# Altium schematic symbol library IIOT_GATEWAY_MT7621.SCHLIB: 180 symbols (part 1 of 2)
Pins are listed as number, name and electrical type; pins without a type are passive.

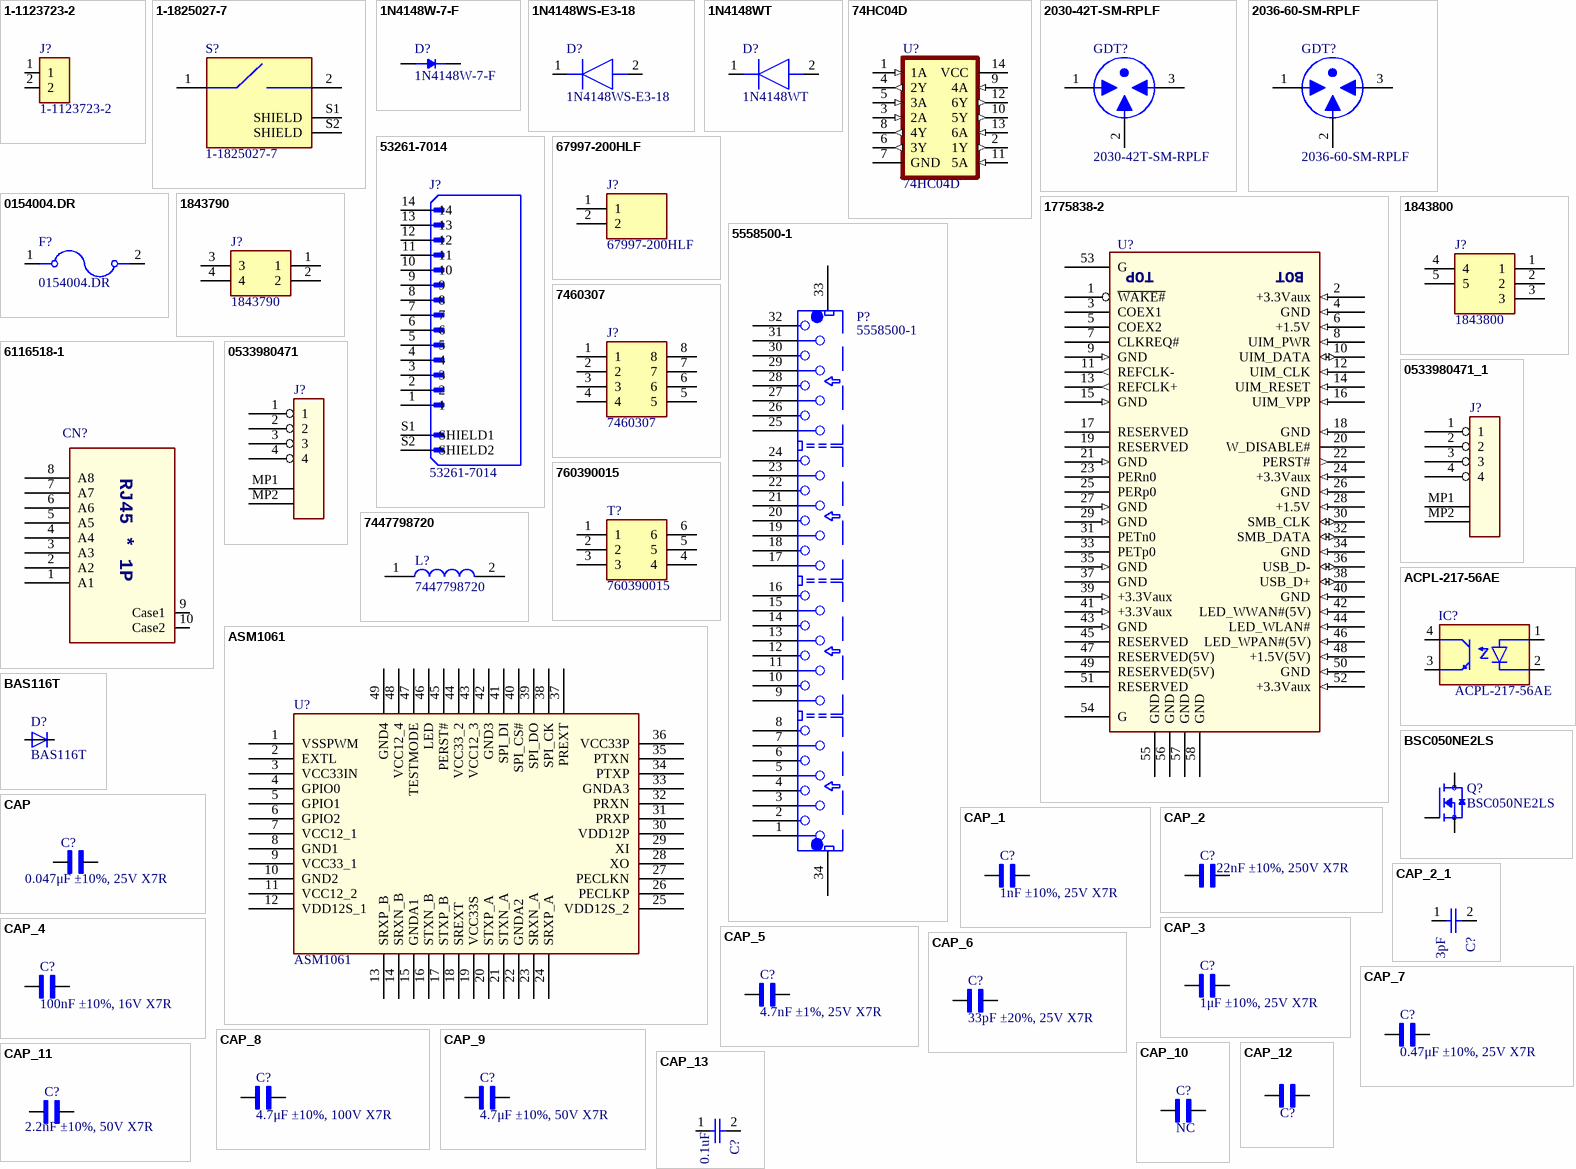
[diagram p0: symbols 1-1123723-2 to CAP_13]

## 1-1123723-2
designator J?
3.96 EP HDR ASSY 2P_NATURAL_; Number_of_Positions: 2; MF: TE Connectivity; Product_Type: Header; Centerline_Pitch: 3.96 mm[.156 in]; EU_RoHS_Compliance: Compliant; Value: *; TE_purchase_URL: https://www.te.com/usa-en/product-1-1123723-2.html?te_bu=Cor&te_type=disp&te_campaign=seda_glo_cor-seda-global-disp-prtnr-fy19-seda-model-bom-cta_sma-317_1&elqCampaignId=32493; SnapEDA_Link: https://www.snapeda.com/parts/1-1123723-2/TE%20Connectivity%20AMP%20Connectors/view-part/231687/?ref=snap; Package: None; MP: 1-1123723-2; Digi-Key_Purchase_URL: https://www.digikey.com/product-detail/en/te-connectivity-amp-connectors/1-1123723-2/A111830-ND/686925?utm_source=snapeda&utm_medium=aggregator&utm_campaign=symbol; Digi-Key_Part_Number: A111830-ND
footprint TE_1-1123723-2
pins: 1, 2

## 1-1825027-7
designator S?
Switch; Manufacturer_Name: TE Connectivity; Datasheet Link: https://www.te.com/commerce/DocumentDelivery/DDEController?Action=srchrtrv&DocNm=1308111-1_SWITCHES_CORE_PROGRAM_CATALOG&DocType=CS&DocLang=English; Height: 7.01mm; Manufacturer_Part_Number: 1-1825027-7; Mouser Part Number: 655-1-1825027-7; Mouser Price/Stock: https://www.mouser.co.uk/ProductDetail/TE-Connectivity-PB/1-1825027-7?qs=f77SmbfBTEqvrOH32rsDWQ%3D%3D; Arrow Part Number: 1-1825027-7; Arrow Price/Stock: https://www.arrow.com/en/products/1-1825027-7/te-connectivity
footprint 118250277
pins: 1 COM, 2 NO, S1 SHIELD, S2 SHIELD

## 1N4148W-7-F
designator D?
Diode Standard 100 V 300mA (DC) Surface Mount SOD-123; MF: Diodes Inc.; Value: *; Availability: In Stock; Package: SOD-123 Fairchild Semiconductor; SnapEDA_Link: https://www.snapeda.com/parts/1N4148W-7-F/Diodes+Inc./view-part/?ref=snap; Price: None; Check_prices: https://www.snapeda.com/parts/1N4148W-7-F/Diodes+Inc./view-part/?ref=eda; Purchase-URL: https://pricing.snapeda.com/search/part/1N4148W-7-F/?ref=eda; MP: 1N4148W-7-F
footprint SOD3715X135N
pins: A, C K

## 1N4148WS-E3-18
designator D?
Diode; Manufacturer_Name: Vishay; Datasheet Link: https://www.vishay.com/docs/85751/1n4148ws.pdf; Height: 1.15mm; Manufacturer_Part_Number: 1N4148WS-E3-18; Mouser Part Number: 78-1N4148WS-E3-18; Mouser Price/Stock: https://www.mouser.co.uk/ProductDetail/Vishay-Semiconductors/1N4148WS-E3-18?qs=bTzheeSci6SMGZleBxLU%2Fg%3D%3D; Arrow Part Number: 1N4148WS-E3-18; Arrow Price/Stock: https://www.arrow.com/en/products/1n4148ws-e3-18/vishay?region=nac
footprint SOD2713X115N
pins: 1 K, 2 A

## 1N4148WT
designator D?
Diode; Manufacturer_Name: SEMTECH; Datasheet Link: https://datasheet.lcsc.com/szlcsc/Semtech-1N4148WT_C27748.pdf; Height: 0.7mm; Manufacturer_Part_Number: 1N4148WT
footprint SODFL1608X70N
pins: 1 K, 2 A

## 74HC04D
designator U?
Inverter IC 6 Channel 14-SOIC; MF: Toshiba; Value: *; MP: 74HC04D; Package: SOIC-14 NXP Semiconductors; Price: None; Availability: Unavailable; SnapEDA_Link: https://www.snapeda.com/parts/74HC04D/Toshiba%20Semiconductor%20and%20Storage/view-part/1040011/?ref=snap
footprint SOIC127P600X175-14N
pins: 1 1A (in), 2 1Y (out), 3 2A (in), 4 2Y (out), 5 3A (in), 6 3Y (out), 7 GND, 8 4Y (out), 9 4A (in), 10 5Y (out), 11 5A (in), 12 6Y (out), 13 6A (in), 14 VCC (power)

## 2030-42T-SM-RPLF
designator GDT?
Gas Discharge Tube 90V 10000A _10kA_ 3 Pole Through Hole; MF: Littelfuse Inc.; MP: SL1021A090R; Value: *; Availability: Unavailable; Package: Axial Cylinder Littelfuse; Price: None; SnapEDA_Link: https://www.snapeda.com/parts/SL1021A090R/Littelfuse%20Inc./view-part/554396/?ref=snap
footprint 2030-42T-SM-RPLF
pins: 1 A, 2 E, 3 B

## 2036-60-SM-RPLF
designator GDT?
Gas Discharge Tubes - GDTs / Gas Plasma Arrestors Sparkover100V/s 600V Miniature 3 Pole
footprint 2036-60-SM-RPLF
pins: 1 A, 2 E, 3 B

## 53261-7014
designator J?
MP: 532617014; System: connector; Price: None; Value: *; Package: None; Availability: Unavailable
footprint MOLEX_532617014
pins: 1, 2, 3, 4, 5, 6, 7, 8, 9, 10, 11, 12, 13, 14, S1 SHIELD1, S2 SHIELD2

## 67997-200HLF
designator J?
Connector; Manufacturer_Name: Amphenol Communications Solutions; Datasheet Link: https://cdn.amphenol-cs.com/media/wysiwyg/files/drawing/67996.pdf; Height: 8.58mm; Manufacturer_Part_Number: 67997-200HLF; Mouser Part Number: 649-67997-200HLF; Mouser Price/Stock: https://www.mouser.co.uk/ProductDetail/Amphenol-FCI/67997-200HLF?qs=cpLrBgdhsoGV8OGn4cOuWg%3D%3D; Arrow Part Number: 67997-200HLF; Arrow Price/Stock: https://www.arrow.com/en/products/67997-200hlf/amphenol-fci
footprint HDRV2W67P254_2X1_254X483X858P
pins: 1, 2

## 0154004.DR
designator F?
154/154T/154L/154TL Series OMNI-BLOKÂ® Fuse and Holder Assembly; Package: None; Availability: Unavailable; Value: *; MP: 0154004.DR; Price: None
footprint FUSE_0154004.DR
pins: 1, 2

## 1775838-2
designator U?, comment 1759513-1  (value not drawn)
0.8MM MINI PCI EXPRESS CONNECTOR 9H
footprint TE_1775838-2
pins: 1 ~{WAKE#} (oc), 2 +3.3Vaux (in), 3 COEX1, 4 GND (in), 5 COEX2, 6 +1.5V (in), 7 CLKREQ# (oc), 8 UIM_PWR (in), 9 GND (in), 10 UIM_DATA (io), 11 REFCLK- (out), 12 UIM_CLK (in), 13 REFCLK+ (out), 14 UIM_RESET (in), 15 GND (in), 16 UIM_VPP (in), 17 RESERVED, 18 GND (in), 19 RESERVED, 20 W_DISABLE#, 21 GND (in), 22 PERST# (out), 23 PERn0, 24 +3.3Vaux (in), 25 PERp0, 26 GND (in), 27 GND (in), 28 +1.5V (in), 29 GND (in), 30 SMB_CLK (io), 31 PETn0, 32 SMB_DATA (io), 33 PETp0, 34 GND (in), 35 GND (in), 36 USB_D- (io), 37 GND (power), 38 USB_D+ (io), 39 +3.3Vaux (in), 40 GND (in), 41 +3.3Vaux (in), 42 LED_WWAN#(5V) (in), 43 GND (in), 44 LED_WLAN# (in), 45 RESERVED, 46 LED_WPAN#(5V) (in), 47 RESERVED(5V), 48 +1.5V(5V) (in), 49 RESERVED(5V), 50 GND (in), 51 RESERVED, 52 +3.3Vaux (in), 53 G, 54 G, 55 GND, 56 GND, 57 GND, 58 GND
text: TOP; BOT

## 1843790
designator J?
Connector; Manufacturer_Name: Phoenix Contact; Datasheet Link: http://www.phoenixcontact.com/de/produkte/1843790/pdf; Height: 7.4mm; Manufacturer_Part_Number: 1843790; Mouser Part Number: 651-1843790; Mouser Price/Stock: https://www.mouser.co.uk/ProductDetail/Phoenix-Contact/1843790?qs=8BCRtFWWXOSOfz2GfgipZg%3D%3D; Arrow Part Number: 1843790; Arrow Price/Stock: https://www.arrow.com/en/products/1843790/phoenix-contact?region=nac
footprint 1843790
pins: 1, 2, 3, 4

## 1843800
designator J?
Connector; Manufacturer_Name: Phoenix Contact; Datasheet Link: http://www.phoenixcontact.com/de/produkte/1843800/pdf; Height: 7.4mm; Manufacturer_Part_Number: 1843800; Mouser Part Number: 651-1843800; Mouser Price/Stock: https://www.mouser.co.uk/ProductDetail/Phoenix-Contact/1843800?qs=uJX40y%252BSWqgV2WPXXVa%2FDw%3D%3D; Arrow Part Number: 1843800; Arrow Price/Stock: https://www.arrow.com/en/products/1843800/phoenix-contact?region=nac
footprint 1843800
pins: 1, 2, 3, 4, 5

## 5558500-1
designator P?
footprint CONN_ARJ14A-MESA-MU2
pins: 1, 2, 3, 4, 5, 6, 7, 8, 9, 10, 11, 12, 13, 14, 15, 16, 17, 18, 19, 20, 21, 22, 23, 24, 25, 26, 27, 28, 29, 30, 31, 32, 33, 34

## 6116518-1
designator CN?  (value not drawn)
footprint BEL_SS-6488-NF
pins: 1 A1, 2 A2, 3 A3, 4 A4, 5 A5, 6 A6, 7 A7, 8 A8, 9 Case1, 10 Case2
text: RJ45 * 1P

## 7460307
designator J?
Connector; Manufacturer_Name: Wurth Elektronik; Datasheet Link: https://katalog.we-online.com/em/datasheet/7460307.pdf; Height: 7mm; Manufacturer_Part_Number: 7460307; Mouser Part Number: 710-7460307; Mouser Price/Stock: https://www.mouser.co.uk/ProductDetail/Wurth-Elektronik/7460307?qs=lykWx4dhCCG1TLZtVq%252B8cQ%3D%3D
footprint 7460307
pins: 1, 2, 3, 4, 5, 6, 7, 8

## 0533980471
designator J?  (value not drawn)
Conn Shrouded Header (3 Sides) HDR 4 POS 1.25mm Solder ST Top Entry SMD PicoBlade™ T/R; Manufacturer: Molex; Manufacturer Part Number: 53398-0471; System: Connector; Supplier 1: RSComponents; RoHS: Yes; Category: Headers and Wire Housings; Stock 1: 1535; Pricing 1: 5=1.26200, 100=1.10100, 375=0.94800, 1500=0.79200, 3000=0.63100 (USD); Supplier Part Number 1: 6563018
footprint 0533980471
pins: 1, 2, 3, 4, MP1, MP2

## 0533980471_1
designator J?, comment 0533980471  (value not drawn)
Conn Shrouded Header (3 Sides) HDR 4 POS 1.25mm Solder ST Top Entry SMD PicoBlade™ T/R; Manufacturer: Molex; Manufacturer Part Number: 53398-0471; Supplier 1: RSComponents; RoHS: Yes; Category: Headers and Wire Housings; Stock 1: 1535; Pricing 1: 5=1.26200, 100=1.10100, 375=0.94800, 1500=0.79200, 3000=0.63100 (USD); Supplier Part Number 1: 6563018
footprint 0533980471
pins: 1, 2, 3, 4, MP1, MP2

## 760390015
designator T?
Transformer; Manufacturer_Name: Wurth Elektronik; Datasheet Link: https://www.we-online.com/components/products/datasheet/760390015.pdf; Manufacturer_Part_Number: 760390015; Mouser Part Number: 710-760390015; Mouser Price/Stock: https://www.mouser.co.uk/ProductDetail/Wurth-Elektronik/760390015?qs=wElim4iM2pjOQCmk%252B8YbFA%3D%3D
footprint 760390015
pins: 1, 2, 3, 4, 5, 6

## 7447798720
designator L?
Fixed Ind 7.2UH 7.9A 12.8 Mohm; Manufacturer: Wurth Electronics; Core Material: Metal,Composite; Saturation Current: 6A; Tolerance: 30%; Shielding: Shielded; Self Resonant Frequency: 31MHz; DC Resistance (DCR): 12.8mR; Test Frequency: 100kHz; Max DC Current: 6.5A; Supplier 1: Newark; Manufacturer Part Number: 7447798720; RoHS: Yes; Category: Fixed Inductors; Stock 1: 203; Pricing 1: 1=3.34000, 10=3.09000, 25=3.05000, 50=3.02000, 100=2.98000, 250=2.65000 (USD); Mount: Surface Mount; Case/Package: Nonstandard; Min Operating Temperature: -40°C; Max Operating Temperature: 150°C; Package Quantity: 1; Current Rating: 7.9A; Packaging: Tape and Reel; Inductance Tolerance: 30%; Resistor Type: Wirewound; Inductance: 7.2uH; Termination: SMD/SMT; RMS Current (Irms): 7.9A; Series: WE-PDF; Length: 0.402inch; Width: 0.402inch; Height: 6.4mm; Height - Seated (Max): 0.252inch; REACH SVHC: Unknown; RoHS Compliant: Yes; ComponentLink1URL: https://datasheet.ciiva.com/7892/1736564-7892967.pdf?src-supplier=Element14; ComponentLink1Description: https://datasheet.ciiva.com/7892/1736564-7892967.pdf?src-supplier=Element14; ComponentLink2URL: https://datasheet.ciiva.com/6171/530544-6171082.pdf?src-supplier=Farnell; ComponentLink2Description: https://datasheet.ciiva.com/6171/530544-6171082.pdf?src-supplier=Farnell; ComponentLink3URL: https://datasheet.ciiva.com/4954/7447798720-38957-4954724.pdf?src-supplier=Mouser; ComponentLink3Description: https://datasheet.ciiva.com/4954/7447798720-38957-4954724.pdf?src-supplier=Mouser; ComponentLink4URL: https://datasheet.ciiva.com/1060/7447798720-1060960.pdf?src-supplier=Digi-Key; ComponentLink4Description: https://datasheet.ciiva.com/1060/7447798720-1060960.pdf?src-supplier=Digi-Key; ComponentLink5URL: https://datasheet.ciiva.com/1060/7447798720-1060961.pdf?src-supplier=Digi-Key; ComponentLink5Description: https://datasheet.ciiva.com/1060/7447798720-1060961.pdf?src-supplier=Digi-Key; ComponentLink6URL: https://datasheet.ciiva.com/1060/7447798720-1060962.pdf?src-supplier=Digi-Key; ComponentLink6Description: https://datasheet.ciiva.com/1060/7447798720-1060962.pdf?src-supplier=Digi-Key; Supplier Part Number 1: 78R5736
footprint CDRH103RNP6R8NCB
pins: 1, 2

## ACPL-217-56AE
designator IC?
Integrated Circuit; Manufacturer_Name: Avago Technologies; Datasheet Link: https://docs.broadcom.com/docs/AV02-0470EN; Height: 2.42mm; Manufacturer_Part_Number: ACPL-217-56AE; Mouser Part Number: 630-ACPL-217-56AE; Mouser Price/Stock: https://www.mouser.co.uk/ProductDetail/Broadcom-Avago/ACPL-217-56AE?qs=dcm2zoLQumBcA1gigmq0vA%3D%3D
footprint SOIC127P700X242-4N
pins: 1 ANODE, 2 CATHODE, 3 EMITTER, 4 COLLECTOR

## ASM1061
designator U?
footprint QFN-48
pins: 1 VSSPWM, 2 EXTL, 3 VCC33IN, 4 GPIO0, 5 GPIO1, 6 GPIO2, 7 VCC12_1, 8 GND1, 9 VCC33_1, 10 GND2, 11 VCC12_2, 12 VDD12S_1, 13 SRXP_B, 14 SRXN_B, 15 GNDA1, 16 STXN_B, 17 STXP_B, 18 SREXT, 19 VCC33S, 20 STXP_A, 21 STXN_A, 22 GNDA2, 23 SRXN_A, 24 SRXP_A, 25 VDD12S_2, 26 PECLKP, 27 PECLKN, 28 XO, 29 XI, 30 VDD12P, 31 PRXP, 32 PRXN, 33 GNDA3, 34 PTXP, 35 PTXN, 36 VCC33P, 37 PREXT, 38 SPI_CK, 39 SPI_DO, 40 SPI_CS#, 41 SPI_DI, 42 GND3, 43 VCC12_3, 44 VCC33_2, 45 PERST#, 46 LED, 47 TESTMODE, 48 VCC12_4, 49 GND4

## BAS116T
designator D?
Diode Standard 75V 200mA Surface Mount SC-75, SOT-416; MP: BAS116; MF: NXP Semiconductors; Package: SOT-23-3 NXP Semiconductors; Availability: Bad; SnapEDA_Link: https://www.snapeda.com/parts/BAS116/NXP%20Semiconductors/view-part/188045/?ref=snap; Value: *; Price: None
footprint SOT416
pins: 1 A, 3 K

## BSC050NE2LS
designator Q?
MOSFET (N-Channel); Manufacturer_Name: Infineon; Datasheet Link: https://www.infineon.com/dgdl/Infineon-BSC050NE2LS-DataSheet-v02_04-EN.pdf?fileId=db3a304326dfb1300126fb5ce0cb3f2d; Height: 1.2mm; Manufacturer_Part_Number: BSC050NE2LS; Mouser Part Number: 726-BSC050NE2LS; Mouser Price/Stock: https://www.mouser.co.uk/ProductDetail/Infineon-Technologies/BSC050NE2LS?qs=HwMeRNENlMaXFFR8DpmvKQ%3D%3D
footprint BSC050NE2LS
pins: 1 S, 2 S, 3 S, 4 G, 5 D, 6 D, 7 D, 8 D, 9 D

## CAP
designator C?, comment 0.047μF ±10%, 25V X7R
MP: LD03ZD475MAB2A; Package: None; Price: None; Value: *; Availability: Unavailable
footprint 0603_C
footprint 0805_C
footprint 1206_C
footprint 1210_C
pins: 1, 2

## CAP_1
designator C?, comment 1nF ±10%, 25V X7R
MP: LD03ZD475MAB2A; Package: None; Price: None; Value: *; Availability: Unavailable
footprint 0603_C
footprint 0805_C
footprint 1206_C
footprint 1210_C
pins: 1, 2

## CAP_2
designator C?, comment 22nF ±10%, 250V X7R
MP: LD03ZD475MAB2A; Package: None; Price: None; Value: *; Availability: Unavailable
footprint 0603_C
footprint 0805_C
footprint 1206_C
footprint 1210_C
pins: 1, 2

## CAP_2_1
designator C?, comment 33pF
footprint 0603-C (Capacitor 0603 Nominal Density)
footprint 0805-C (Capacitor 0805 Nominal Density)
footprint 1206-C (Capacitor 1206 Nominal Density)
footprint 0402-C
pins: 1, 2

## CAP_3
designator C?, comment 1μF ±10%, 25V X7R
MP: LD03ZD475MAB2A; Package: None; Price: None; Value: *; Availability: Unavailable
footprint 0603_C
footprint 0805_C
footprint 1206_C
footprint 1210_C
pins: 1, 2

## CAP_4
designator C?, comment 100nF ±10%, 16V X7R
MP: LD03ZD475MAB2A; Package: None; Price: None; Value: *; Availability: Unavailable
footprint 0603_C
footprint 0805_C
footprint 1206_C
footprint 1210_C
pins: 1, 2

## CAP_5
designator C?, comment 4.7nF ±1%, 25V X7R
MP: LD03ZD475MAB2A; Package: None; Price: None; Value: *; Availability: Unavailable
footprint 0603_C
footprint 0805_C
footprint 1206_C
footprint 1210_C
pins: 1, 2

## CAP_6
designator C?, comment 33pF ±20%, 25V X7R
MP: LD03ZD475MAB2A; Package: None; Price: None; Value: *; Availability: Unavailable
footprint 0603_C
footprint 0805_C
footprint 1206_C
footprint 1210_C
pins: 1, 2

## CAP_7
designator C?, comment 0.47μF ±10%, 25V X7R
MP: LD03ZD475MAB2A; Package: None; Price: None; Value: *; Availability: Unavailable
footprint 0603_C
footprint 0805_C
footprint 1206_C
footprint 1210_C
pins: 1, 2

## CAP_8
designator C?, comment 4.7μF ±10%, 100V X7R
MP: LD03ZD475MAB2A; Package: None; Price: None; Value: *; Availability: Unavailable
footprint 0603_C
footprint 0805_C
footprint 1206_C
footprint 1210_C
pins: 1, 2

## CAP_9
designator C?, comment 4.7μF ±10%, 50V X7R
MP: LD03ZD475MAB2A; Package: None; Price: None; Value: *; Availability: Unavailable
footprint 0603_C
footprint 0805_C
footprint 1206_C
footprint 1210_C
pins: 1, 2

## CAP_10
designator C?, comment NC
MP: LD03ZD475MAB2A; Package: None; Price: None; Value: *; Availability: Unavailable
footprint 0603_C
footprint 0805_C
footprint 1206_C
footprint 1210_C
pins: 1, 2

## CAP_11
designator C?, comment 2.2nF ±10%, 50V X7R
MP: LD03ZD475MAB2A; Package: None; Price: None; Value: *; Availability: Unavailable
footprint 0603_C
footprint 0805_C
footprint 1206_C
footprint 1210_C
pins: 1, 2

## CAP_12
designator C?, comment 47μF ±10%, 10V X7R  (value not drawn)
Capacitor non polar; MP: LD03ZD475MAB2A; Package: None; Price: None; Value: *; Availability: Unavailable
footprint 0603_C
footprint 0805_C
footprint 1206_C
footprint 1210_C
pins: 1, 2

## CAP_13
designator C?, comment 0.1uF
footprint 0603-C (Capacitor 0603 Nominal Density)
footprint 0805-C (Capacitor 0805 Nominal Density)
footprint 1206-C (Capacitor 1206 Nominal Density)
footprint 0402-C
pins: 1, 2

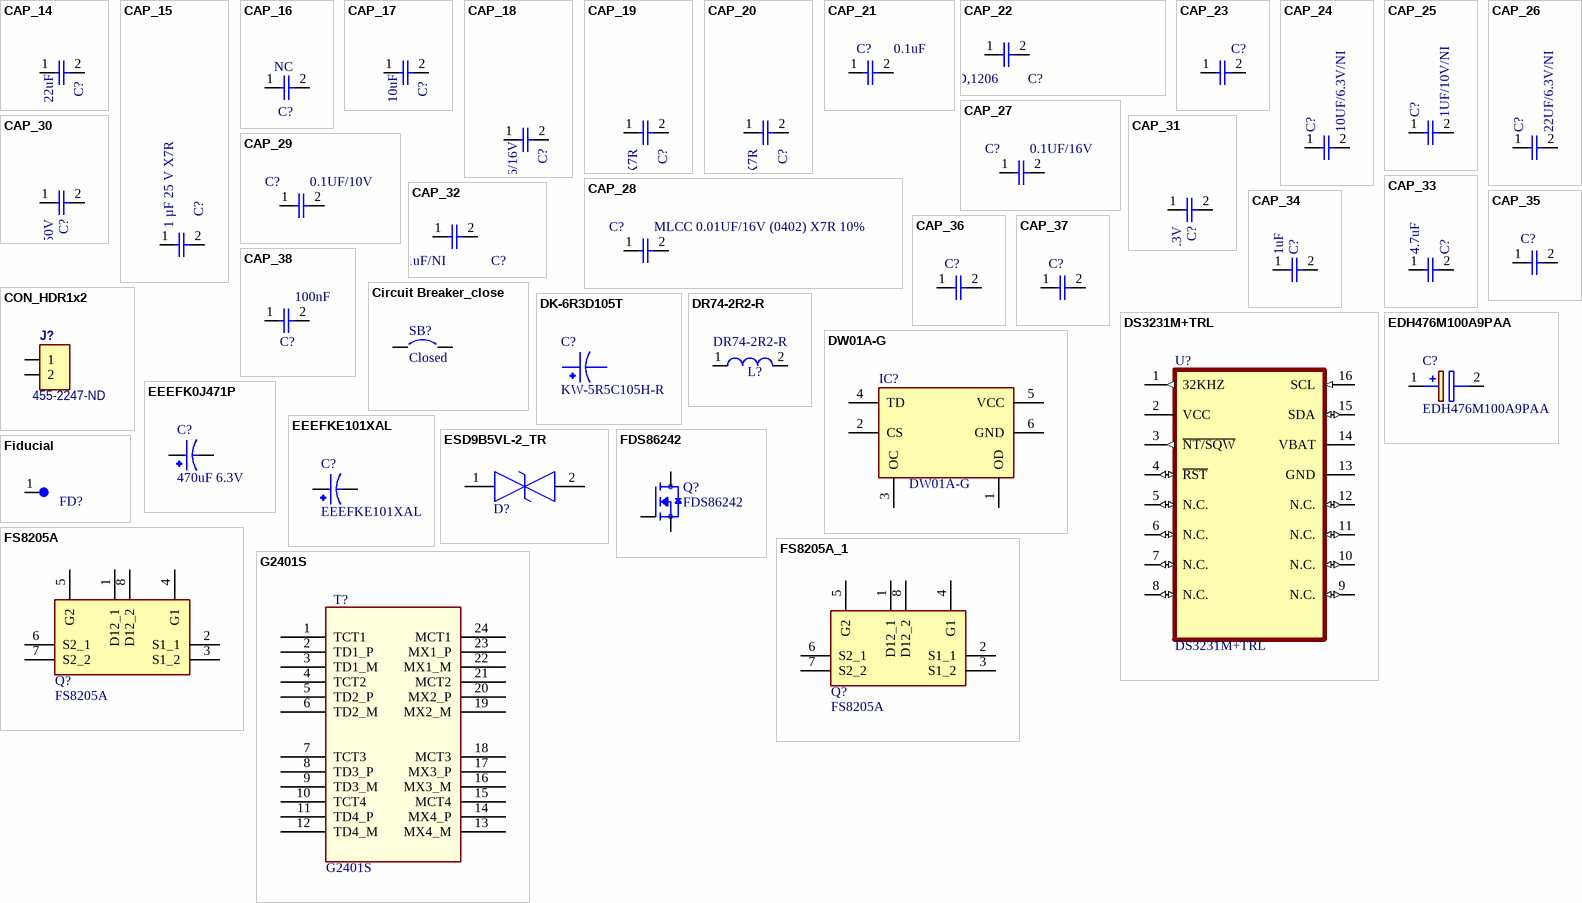
[diagram p1: symbols CAP_14 to G2401S]

## CAP_14
designator C?, comment 22uF
footprint 0603-C (Capacitor 0603 Nominal Density)
footprint 0805-C (Capacitor 0805 Nominal Density)
footprint 1206-C (Capacitor 1206 Nominal Density)
footprint 0402-C
pins: 1, 2

## CAP_15
designator C?, comment 1 µF 25 V X7R
footprint 0603-C (Capacitor 0603 Nominal Density)
footprint 0805-C (Capacitor 0805 Nominal Density)
footprint 1206-C (Capacitor 1206 Nominal Density)
footprint 0402-C
pins: 1, 2

## CAP_16
designator C?, comment NC
footprint 0603-C (Capacitor 0603 Nominal Density)
footprint 0805-C (Capacitor 0805 Nominal Density)
footprint 1206-C (Capacitor 1206 Nominal Density)
footprint 0402-C
pins: 1, 2

## CAP_17
designator C?, comment 10uF
footprint 0603-C (Capacitor 0603 Nominal Density)
footprint 0805-C (Capacitor 0805 Nominal Density)
footprint 1206-C (Capacitor 1206 Nominal Density)
footprint 0402-C
pins: 1, 2

## CAP_18
designator C?, comment 47uF/1206/16V
footprint 0603-C (Capacitor 0603 Nominal Density)
footprint 0805-C (Capacitor 0805 Nominal Density)
footprint 1206-C (Capacitor 1206 Nominal Density)
footprint 0402-C
pins: 1, 2

## CAP_19
designator C?, comment 10 µF 25 V X7R
footprint 0603-C (Capacitor 0603 Nominal Density)
footprint 0805-C (Capacitor 0805 Nominal Density)
footprint 1206-C (Capacitor 1206 Nominal Density)
footprint 0402-C
footprint 1210-C
pins: 1, 2

## CAP_20
designator C?, comment 22 µF 16 V X7R
footprint 0603-C (Capacitor 0603 Nominal Density)
footprint 0805-C (Capacitor 0805 Nominal Density)
footprint 1206-C (Capacitor 1206 Nominal Density)
footprint 0402-C
footprint 1210-C
pins: 1, 2

## CAP_21
designator C?, comment 0.1uF
footprint 0603-C (Capacitor 0603 Nominal Density)
footprint 0805-C (Capacitor 0805 Nominal Density)
footprint 1206-C (Capacitor 1206 Nominal Density)
pins: 1, 2

## CAP_22
designator C?, comment 1000pF,2KV,SMD,1206
footprint 0603-C (Capacitor 0603 Nominal Density)
footprint 0805-C (Capacitor 0805 Nominal Density)
footprint 1206-C (Capacitor 1206 Nominal Density)
footprint 0402-C
pins: 1, 2

## CAP_23
designator C?, comment 22uF,10V,0805  (value not drawn)
footprint 0603-C (Capacitor 0603 Nominal Density)
footprint 0805-C (Capacitor 0805 Nominal Density)
footprint 1206-C (Capacitor 1206 Nominal Density)
pins: 1, 2

## CAP_24
designator C?, comment 10UF/6.3V/NI
footprint 0603-C (Capacitor 0603 Nominal Density)
footprint 0805-C (Capacitor 0805 Nominal Density)
footprint 1206-C (Capacitor 1206 Nominal Density)
footprint 0402-C
pins: 1, 2

## CAP_25
designator C?, comment 1UF/10V/NI
footprint 0603-C (Capacitor 0603 Nominal Density)
footprint 0805-C (Capacitor 0805 Nominal Density)
footprint 1206-C (Capacitor 1206 Nominal Density)
footprint 0402-C
pins: 1, 2

## CAP_26
designator C?, comment 22UF/6.3V/NI
footprint 0603-C (Capacitor 0603 Nominal Density)
footprint 0805-C (Capacitor 0805 Nominal Density)
footprint 1206-C (Capacitor 1206 Nominal Density)
footprint 0402-C
pins: 1, 2

## CAP_27
designator C?, comment 0.1UF/16V
footprint 0603-C (Capacitor 0603 Nominal Density)
footprint 0805-C (Capacitor 0805 Nominal Density)
footprint 1206-C (Capacitor 1206 Nominal Density)
footprint 0402-C
pins: 1, 2

## CAP_28
designator C?, comment MLCC 0.01UF/16V (0402) X7R 10%
footprint 0603-C (Capacitor 0603 Nominal Density)
footprint 0805-C (Capacitor 0805 Nominal Density)
footprint 1206-C (Capacitor 1206 Nominal Density)
footprint 0402-C
pins: 1, 2

## CAP_29
designator C?, comment 0.1UF/10V
footprint 0603-C (Capacitor 0603 Nominal Density)
footprint 0805-C (Capacitor 0805 Nominal Density)
footprint 1206-C (Capacitor 1206 Nominal Density)
footprint 0402-C
pins: 1, 2

## CAP_30
designator C?, comment 15PF/50V
footprint 0603-C (Capacitor 0603 Nominal Density)
footprint 0805-C (Capacitor 0805 Nominal Density)
footprint 1206-C (Capacitor 1206 Nominal Density)
footprint 0402-C
pins: 1, 2

## CAP_31
designator C?, comment 10UF/6.3V
footprint 0603-C (Capacitor 0603 Nominal Density)
footprint 0805-C (Capacitor 0805 Nominal Density)
footprint 1206-C (Capacitor 1206 Nominal Density)
footprint 0402-C
pins: 1, 2

## CAP_32
designator C?, comment 0.1uF/NI
footprint 0603-C (Capacitor 0603 Nominal Density)
footprint 0805-C (Capacitor 0805 Nominal Density)
footprint 1206-C (Capacitor 1206 Nominal Density)
footprint 0402-C
pins: 1, 2

## CAP_33
designator C?, comment 4.7uF
footprint 0603-C (Capacitor 0603 Nominal Density)
footprint 0805-C (Capacitor 0805 Nominal Density)
footprint 1206-C (Capacitor 1206 Nominal Density)
footprint 0402-C
pins: 1, 2

## CAP_34
designator C?, comment 1uF
footprint 0603-C (Capacitor 0603 Nominal Density)
footprint 0805-C (Capacitor 0805 Nominal Density)
footprint 1206-C (Capacitor 1206 Nominal Density)
footprint 0402-C
pins: 1, 2

## CAP_35
designator C?, comment 10uF,0805  (value not drawn)
footprint 0603-C (Capacitor 0603 Nominal Density)
footprint 0805-C (Capacitor 0805 Nominal Density)
footprint 1206-C (Capacitor 1206 Nominal Density)
pins: 1, 2

## CAP_36
designator C?, comment 0.1uF,0603  (value not drawn)
footprint 0603-C (Capacitor 0603 Nominal Density)
footprint 0805-C (Capacitor 0805 Nominal Density)
footprint 1206-C (Capacitor 1206 Nominal Density)
pins: 1, 2

## CAP_37
designator C?, comment 10nF,0603  (value not drawn)
footprint 0603-C (Capacitor 0603 Nominal Density)
footprint 0805-C (Capacitor 0805 Nominal Density)
footprint 1206-C (Capacitor 1206 Nominal Density)
pins: 1, 2

## CAP_38
designator C?, comment 100nF
footprint 0603-C (Capacitor 0603 Nominal Density)
footprint 0805-C (Capacitor 0805 Nominal Density)
footprint 1206-C (Capacitor 1206 Nominal Density)
pins: 1, 2

## Circuit Breaker_close
designator SB?, comment Closed
Circuit Breaker; Published: 24-Mar-1999; Revision: July-2002: Re-released for DXP Platform.; Publisher: Altium Limited
footprint SPST-2 (Circuit Breaker; 2 Leads)
footprint JP2_SMD
footprint SB_0603 (Footprint not found)
pins: 1, 2

## CON_HDR1x2
designator J?, comment 455-2247-ND
ComponentLink1URL: https://www.jst-mfg.com/product/pdf/eng/eXH.pdf; ComponentLink1Description: Datasheet
footprint CON_HDR1x2 (Connector 2-Way 2.50mm Pitch Right Angle Shrouded JST S2B-XH-A)
pins: 1, 2

## DK-6R3D105T
designator C?, comment KW-5R5C105H-R
Supercapacitors 1F 5.5V; MP: DK-6R3D105T; MF: Elna; Package: Radial Can  Elna; Price: None; Value: *; Availability: Warning; SnapEDA_Link: https://www.snapeda.com/parts/DK-6R3D105T/Elna/view-part/810793/?ref=snap; Mouser-Purchase-URL: https://snapeda.com/shop?store=Mouser&id=810793
footprint CAPPRD500W80D2150H950 (Footprint not found)
pins: 1, 2

## DR74-2R2-R
designator L?
footprint INDM7676X435N
pins: 1, 2

## DS3231M+TRL
designator U?
Package: None; Price: None; Value: *; MP: DS3231M+TRL; Availability: Unavailable
footprint SOIC127P1032X265-16N
pins: 1 32KHZ (out), 2 VCC (power), 3 ~{NT/SQW} (out), 4 ~{RST} (io), 5 N.C. (io), 6 N.C. (io), 7 N.C. (io), 8 N.C. (io), 9 N.C. (io), 10 N.C. (io), 11 N.C. (io), 12 N.C. (io), 13 GND (power), 14 VBAT (power), 15 SDA (io), 16 SCL (in)

## DW01A-G
designator IC?
Integrated Circuit; Manufacturer_Name: Fortune Semiconductor Corporation; Datasheet Link: http://acoptex.com/uploads/DW01A.pdf; Height: 1.35mm; Manufacturer_Part_Number: DW01A-G
footprint SOT95P280X135-6N
pins: 1 OD, 2 CS, 3 OC, 4 TD, 5 VCC, 6 GND

## EDH476M100A9PAA
designator C?
Capacitor Polarised; Manufacturer_Name: KEMET; Datasheet Link: https://content.kemet.com/datasheets/KEM_A4049_EDH.pdf; Height: 10.5mm; Manufacturer_Part_Number: EDH476M100A9PAA; Mouser Part Number: 80-EDH476M100A9PAA; Mouser Price/Stock: https://www.mouser.co.uk/ProductDetail/KEMET/EDH476M100A9PAA?qs=E9QF1UCAUX7o%252BSuv4vgBDA%3D%3D; Arrow Part Number: EDH476M100A9PAA; Arrow Price/Stock: https://www.arrow.com/en/products/edh476m100a9paa/kemet-corporation?region=nac
footprint CAPAE1030X1050N
pins: 1 +, 2 -

## EEEFK0J471P
designator C?, comment 470uF 6.3V
footprint CAP_EEEFK0J471P
pins: 1, 2

## EEEFKE101XAL
designator C?
CAP ALUM 100UF 20% 25V SMD; MF: Panasonic; Check_prices: https://www.snapeda.com/parts/EEEFKE101XAL/Panasonic/view-part/5785135/?ref=eda; Package: RADIAL-2 Panasonic; Value: *; Digi-Key_Part_Number: 10-EEE-FKE101XALCT-ND; MP: EEEFKE101XAL; SnapEDA_Link: https://www.snapeda.com/parts/EEEFKE101XAL/Panasonic/view-part/5785135/?ref=snap
footprint CAP_EEEFKE101XAL
pins: 1, 2

## ESD9B5VL-2_TR
designator D?  (value not drawn)
TVS Diode (Bi-directional); Manufacturer_Name: Will Semiconductor; Manufacturer_Part_Number: ESD9B5VL-2/TR; Height: 0.55mm
footprint ESD9B5VL2TR
pins: 1, 2

## FDS86242
designator Q?
Integrated Circuit; Manufacturer_Name: onsemi; Datasheet Link: https://datasheet.datasheetarchive.com/originals/distributors/Datasheets_SAMA/beddb12da8e05a49ab7133607c08bb07.pdf; Height: 1.75mm; Manufacturer_Part_Number: FDS86242; Mouser Part Number: 512-FDS86242; Mouser Price/Stock: https://www.mouser.co.uk/ProductDetail/ON-Semiconductor-Fairchild/FDS86242?qs=WZYOKEqGBpJo60pi1Jf2hA%3D%3D; Arrow Part Number: FDS86242; Arrow Price/Stock: https://www.arrow.com/en/products/fds86242/on-semiconductor
footprint SOIC127P600X175-8N
pins: 1 S, 2 S, 3 S, 4 G, 5 D, 6 D, 7 D, 8 D

## Fiducial
designator FD?  (value not drawn)
footprint FD
pins: 1

## FS8205A
designator Q?
Transistor; Manufacturer_Name: SII Semiconductor; Datasheet Link: http://www.ic-fortune.com/upload/Download/FS8205A-DS-12_EN.pdf; Height: 1.2mm; Manufacturer_Part_Number: FS8205A
footprint SOP65P640X120-8N
pins: 1 D12_1, 2 S1_1, 3 S1_2, 4 G1, 5 G2, 6 S2_1, 7 S2_2, 8 D12_2

## FS8205A_1
designator Q?, comment FS8205A
Transistor; Manufacturer_Name: SII Semiconductor; Datasheet Link: http://www.ic-fortune.com/upload/Download/FS8205A-DS-12_EN.pdf; Height: 1.2mm; Manufacturer_Part_Number: FS8205A
footprint SOP65P640X120-8N
pins: 1 D12_1, 2 S1_1, 3 S1_2, 4 G1, 5 G2, 6 S2_1, 7 S2_2, 8 D12_2

## G2401S
designator T?
Audio Transformers / Signal Transformers 1000BaseT SMD NonPoE 350uH .65Ohms 1-Por
footprint SOP127P1600X572-24N (SOP, 24-Leads, Body 17.50x12.80mm, Pitch 1.27mm, IPC Medium Density)
pins: 1 TCT1, 2 TD1_P, 3 TD1_M, 4 TCT2, 5 TD2_P, 6 TD2_M, 7 TCT3, 8 TD3_P, 9 TD3_M, 10 TCT4, 11 TD4_P, 12 TD4_M, 13 MX4_M, 14 MX4_P, 15 MCT4, 16 MX3_M, 17 MX3_P, 18 MCT3, 19 MX2_M, 20 MX2_P, 21 MCT2, 22 MX1_M, 23 MX1_P, 24 MCT1

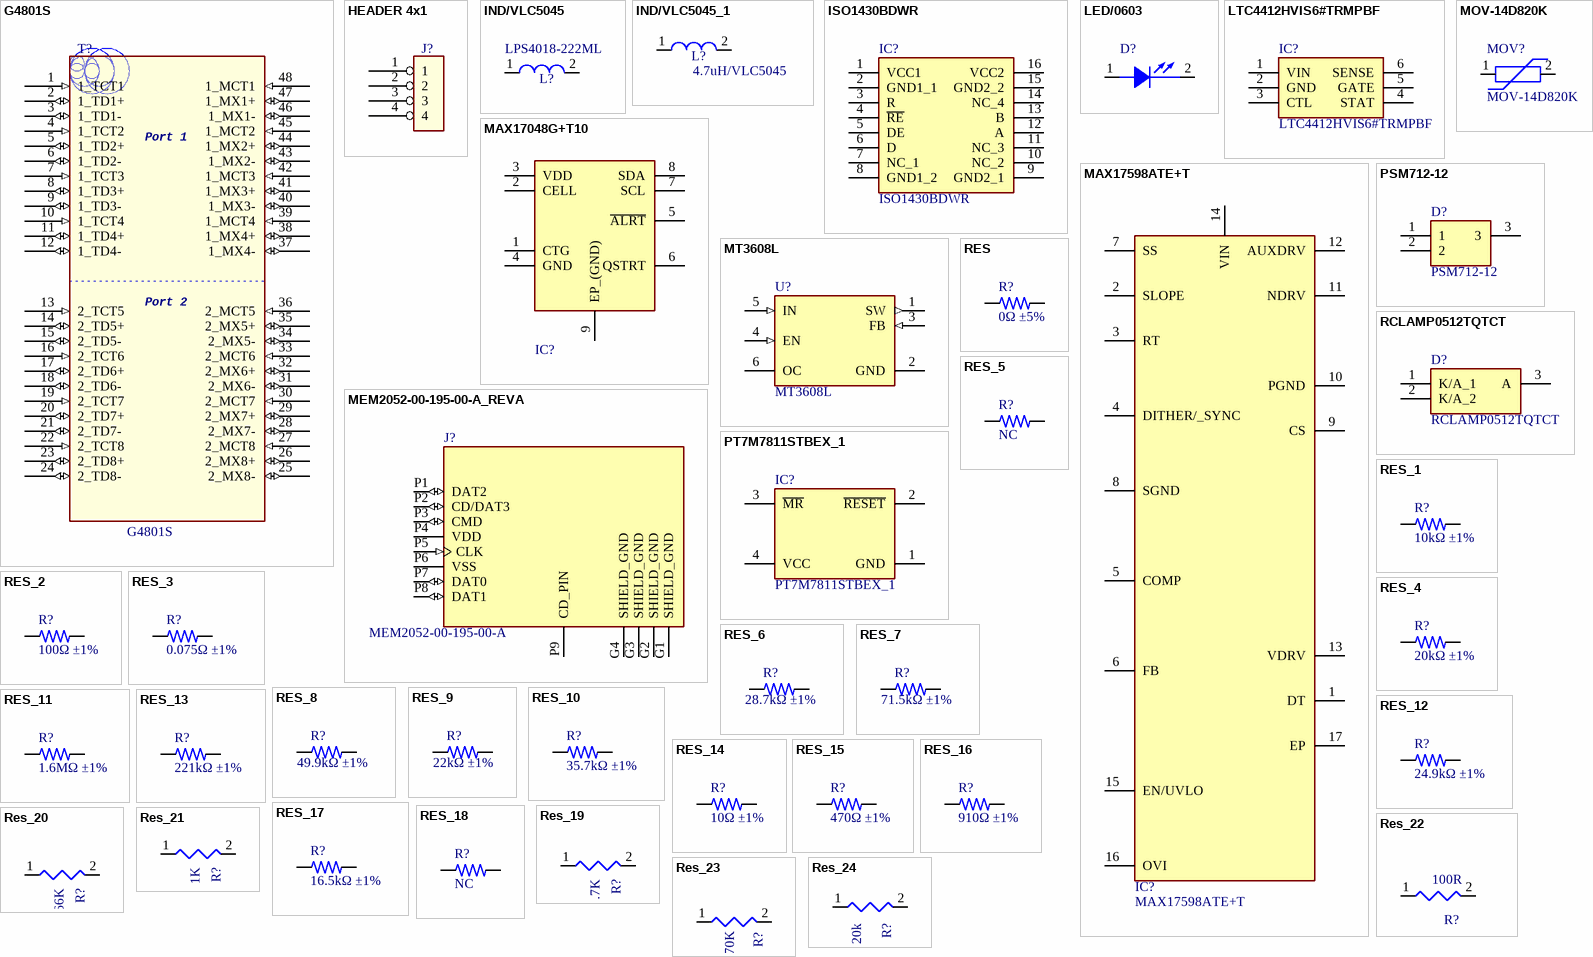
[diagram p2: symbols G4801S to Res_24]

## G4801S
designator T?
Audio Transformers / Signal Transformers GIGABIT ISO MOD SMD 48P 2-Port w/Choke
footprint NV6 (SOP, 48-Leads, Body 27.94x12.19mm, Pitch 1.02mm, IPC Medium Density)
pins: 1 1_TCT1 (in), 2 1_TD1+ (io), 3 1_TD1- (io), 4 1_TCT2 (in), 5 1_TD2+ (io), 6 1_TD2- (io), 7 1_TCT3 (in), 8 1_TD3+ (io), 9 1_TD3- (io), 10 1_TCT4 (in), 11 1_TD4+ (io), 12 1_TD4- (io), 13 2_TCT5 (in), 14 2_TD5+ (io), 15 2_TD5- (io), 16 2_TCT6 (in), 17 2_TD6+ (io), 18 2_TD6- (io), 19 2_TCT7 (in), 20 2_TD7+ (io), 21 2_TD7- (io), 22 2_TCT8 (in), 23 2_TD8+ (io), 24 2_TD8- (io), 25 2_MX8- (io), 26 2_MX8+ (io), 27 2_MCT8 (in), 28 2_MX7- (io), 29 2_MX7+ (io), 30 2_MCT7 (in), 31 2_MX6- (io), 32 2_MX6+ (io), 33 2_MCT6 (in), 34 2_MX5- (io), 35 2_MX5+ (io), 36 2_MCT5 (in), 37 1_MX4- (io), 38 1_MX4+ (io), 39 1_MCT4 (in), 40 1_MX3- (io), 41 1_MX3+ (io), 42 1_MCT3 (in), 43 1_MX2- (io), 44 1_MX2+ (io), 45 1_MCT2 (in), 46 1_MX1- (io), 47 1_MX1+ (io), 48 1_MCT1 (in)
text: Port 1; Port 2

## HEADER 4x1
designator J?  (value not drawn)
footprint CONN_4X1
pins: 1, 2, 3, 4

## IND/VLC5045
designator L?, comment LPS4018-222ML
footprint VLC5045
pins: 1, 2

## IND/VLC5045_1
designator L?, comment 4.7uH/VLC5045
footprint VLC5045
pins: 1, 2

## ISO1430BDWR
designator IC?
Integrated Circuit; Manufacturer_Name: Texas Instruments; Datasheet Link: http://www.ti.com/lit/gpn/ISO1430; Height: 2.65mm; Manufacturer_Part_Number: ISO1430BDWR; Mouser Part Number: 595-ISO1430BDWR; Mouser Price/Stock: https://www.mouser.co.uk/ProductDetail/Texas-Instruments/ISO1430BDWR?qs=EBDBlbfErPz8lerRTXnR0w%3D%3D; Arrow Part Number: ISO1430BDWR; Arrow Price/Stock: https://www.arrow.com/en/products/iso1430bdwr/texas-instruments?region=nac
footprint SOIC127P1030X265-16N
pins: 1 VCC1, 2 GND1_1, 3 R, 4 ~{RE}, 5 DE, 6 D, 7 NC_1, 8 GND1_2, 9 GND2_1, 10 NC_2, 11 NC_3, 12 A, 13 B, 14 NC_4, 15 GND2_2, 16 VCC2

## LED/0603
designator D?  (value not drawn)
footprint LED_0603
pins: 1 ANODE, 2 CATHODE

## LTC4412HVIS6#TRMPBF
designator IC?
Integrated Circuit; Manufacturer_Name: Linear Technology; Datasheet Link: https://datasheet.datasheetarchive.com/originals/dk/DKDS-14/267243.pdf; Height: 1mm; Manufacturer_Part_Number: LTC4412HVIS6#TRMPBF; Mouser Part Number: 584-C4412HVIS6TRMPBF; Mouser Price/Stock: https://www.mouser.co.uk/ProductDetail/Analog-Devices-Linear-Technology/LTC4412HVIS6TRMPBF?qs=hVkxg5c3xu%2F0qD9zc%2Fd4vw%3D%3D; Arrow Part Number: LTC4412HVIS6#TRMPBF; Arrow Price/Stock: https://www.arrow.com/en/products/ltc4412hvis6trmpbf/linear-technology
footprint SOT95P280X100-6N
pins: 1 VIN, 2 GND, 3 CTL, 4 STAT, 5 GATE, 6 SENSE

## MAX17048G+T10
designator IC?  (value not drawn)
Integrated Circuit; Manufacturer_Name: Maxim Integrated; Datasheet Link: https://datasheets.maximintegrated.com/en/ds/MAX17048-MAX17049.pdf; Height: 0.8mm; Manufacturer_Part_Number: MAX17048G+T10; Mouser Part Number: 700-MAX17048G+T10; Mouser Price/Stock: https://www.mouser.co.uk/ProductDetail/Maxim-Integrated/MAX17048G%2bT10?qs=D7PJwyCwLAoGnnn8jEPRBQ%3D%3D; Arrow Part Number: MAX17048G+T10; Arrow Price/Stock: https://www.arrow.com/en/products/max17048gt10/maxim-integrated?region=nac
footprint SON50P200X200X80-9N-D
pins: 1 CTG, 2 CELL, 3 VDD, 4 GND, 5 ~{ALRT}, 6 QSTRT, 7 SCL, 8 SDA, 9 EP_(GND)

## MAX17598ATE+T
designator IC?
Integrated Circuit; Manufacturer_Name: Analog Devices; Datasheet Link: https://www.mouser.in/datasheet/2/256/MAX17599-1513910.pdf; Height: 0.8mm; Manufacturer_Part_Number: MAX17598ATE+T; Mouser Part Number: 700-MAX17598ATE+T; Mouser Price/Stock: https://www.mouser.co.uk/ProductDetail/Maxim-Integrated/MAX17598ATE%2bT?qs=0JU57JYmZjvlV4vexIaXHA%3D%3D; Arrow Part Number: MAX17598ATE+T; Arrow Price/Stock: https://www.arrow.com/en/products/max17598atet/maxim-integrated?region=nac
footprint QFN50P300X300X80-17N
pins: 1 DT, 2 SLOPE, 3 RT, 4 DITHER/_SYNC, 5 COMP, 6 FB, 7 SS, 8 SGND, 9 CS, 10 PGND, 11 NDRV, 12 AUXDRV, 13 VDRV, 14 VIN, 15 EN/UVLO, 16 OVI, 17 EP

## MEM2052-00-195-00-A_REVA
designator J?, comment MEM2052-00-195-00-A
MicroSD Push push Memory Card Connector; MF: Global Connector Technology; Package: None; Availability: Not in stock; SnapEDA_Link: https://www.snapeda.com/parts/MEM2052-00-195-00-A/Global+Connector+Technology/view-part/?ref=snap; MP: MEM2052-00-195-00-A; Price: None; Value: *; Check_prices: https://www.snapeda.com/parts/MEM2052-00-195-00-A/Global+Connector+Technology/view-part/?ref=eda
footprint GCT_MEM2052-00-195-00-A_REVA
pins: G1 SHIELD_GND (power), G2 SHIELD_GND (power), G3 SHIELD_GND (power), G4 SHIELD_GND (power), P1 DAT2 (io), P2 CD/DAT3 (io), P3 CMD (io), P4 VDD (power), P5 CLK (in), P6 VSS (power), P7 DAT0 (io), P8 DAT1 (io), P9 CD_PIN

## MOV-14D820K
designator MOV?
Varistors 82volts 14mm; MP: MOV-14D471K; MF: Bourns; Price: None; SnapEDA_Link: https://www.snapeda.com/parts/MOV-14D471K/Bourns/view-part/?ref=snap; Package: Disc-14 Bourns; Availability: In Stock; Check_prices: https://www.snapeda.com/parts/MOV-14D471K/Bourns/view-part/?ref=eda; Purchase-URL: https://pricing.snapeda.com/search/part/MOV-14D471K/?ref=eda; Value: *
footprint MOV-14D820K
pins: 1 (io), 2 (io)

## MT3608L
designator U?
High Efficiency 1.2MHz2A Step Up Converter; MF: Aerosemi Technology Co., Ltd; MP: MT3608; Package: Package Analog Devices; Availability: Unavailable; Value: *; SnapEDA_Link: https://www.snapeda.com/parts/MT3608/Aerosemi%20Technology%20Co.%2C%20Ltd/view-part/3218014/?ref=snap; Price: None
footprint SOT95P280X145-6N
pins: 1 SW (out), 2 GND (power), 3 FB (in), 4 EN (in), 5 IN (in), 6 OC

## PSM712-12
designator D?
TVS Diode (Bi-directional); Manufacturer_Name: ProTek Devices; Datasheet Link: http://www.protekdevices.com/xyz/documents/datasheets/psm712.pdf; Height: 1.21mm; Manufacturer_Part_Number: PSM712-12
footprint PSM71212
pins: 1, 2, 3

## PT7M7811STBEX_1
designator IC?
Integrated Circuit; Manufacturer_Name: Diodes Inc.; Datasheet Link: https://datasheet.datasheetarchive.com/originals/distributors/Datasheets_SAMA/70e2b3bf34358a70c4e0b24b2fd2675f.pdf; Manufacturer_Part_Number: PT7M7811STBEX; Mouser Part Number: 729-PT7M7811STBEX; Mouser Price/Stock: https://www.mouser.com/Search/Refine.aspx?Keyword=729-PT7M7811STBEX; Arrow Part Number: PT7M7811STBEX; Arrow Price/Stock: https://www.arrow.com/en/products/pt7m7811stbex/diodes-incorporated
footprint SOT143
pins: 1 GND, 2 ~{RESET}, 3 ~{MR}, 4 VCC

## RCLAMP0512TQTCT
designator D?
Diode; Manufacturer_Name: SEMTECH; Datasheet Link: https://media.digikey.com/pdf/Data%20Sheets/Semtech%20PDFs/RCLAMP0512TQ_Rev6_12-17-15.pdf; Height: 0.45mm; Manufacturer_Part_Number: RCLAMP0512TQTCT; Mouser Part Number: 947-RCLAMP0512TQTCT; Mouser Price/Stock: https://www.mouser.co.uk/ProductDetail/Semtech/RCLAMP0512TQTCT?qs=rBWM4%252BvDhIfq7vcNOg1BvQ%3D%3D; Arrow Part Number: RCLAMP0512TQTCT; Arrow Price/Stock: https://www.arrow.com/en/products/rclamp0512tqtct/semtech?region=europe
footprint RCLAMP0512TQTCT
pins: 1 K/A_1, 2 K/A_2, 3 A

## RES
designator R?, comment 0Ω ±5%
MP: 3-1879460-6; Package: None; Price: None; Value: *; Availability: Unavailable
footprint 0603_R
footprint 0805_R
footprint 1206_R
pins: 1, 2

## RES_1
designator R?, comment 10kΩ ±1%
MP: 3-1879460-6; Package: None; Price: None; Value: *; Availability: Unavailable
footprint 0603_R
footprint 0805_R
footprint 1206_R
pins: 1, 2

## RES_2
designator R?, comment 100Ω ±1%
MP: 3-1879460-6; Package: None; Price: None; Value: *; Availability: Unavailable
footprint 0603_R
footprint 0805_R
footprint 1206_R
pins: 1, 2

## RES_3
designator R?, comment 0.075Ω ±1%
MP: 3-1879460-6; Package: None; Price: None; Value: *; Availability: Unavailable
footprint 0603_R
footprint 0805_R
footprint 1206_R
pins: 1, 2

## RES_4
designator R?, comment 20kΩ ±1%
MP: 3-1879460-6; Package: None; Price: None; Value: *; Availability: Unavailable
footprint 0603_R
footprint 0805_R
footprint 1206_R
pins: 1, 2

## RES_5
designator R?, comment NC
MP: 3-1879460-6; Package: None; Price: None; Value: *; Availability: Unavailable
footprint 0603_R
footprint 0805_R
footprint 1206_R
pins: 1, 2

## RES_6
designator R?, comment 28.7kΩ ±1%
MP: 3-1879460-6; Package: None; Price: None; Value: *; Availability: Unavailable
footprint 0603_R
footprint 0805_R
footprint 1206_R
pins: 1, 2

## RES_7
designator R?, comment 71.5kΩ ±1%
MP: 3-1879460-6; Package: None; Price: None; Value: *; Availability: Unavailable
footprint 0603_R
footprint 0805_R
footprint 1206_R
pins: 1, 2

## RES_8
designator R?, comment 49.9kΩ ±1%
MP: 3-1879460-6; Package: None; Price: None; Value: *; Availability: Unavailable
footprint 0603_R
footprint 0805_R
footprint 1206_R
pins: 1, 2

## RES_9
designator R?, comment 22kΩ ±1%
MP: 3-1879460-6; Package: None; Price: None; Value: *; Availability: Unavailable
footprint 0603_R
footprint 0805_R
footprint 1206_R
pins: 1, 2

## RES_10
designator R?, comment 35.7kΩ ±1%
MP: 3-1879460-6; Package: None; Price: None; Value: *; Availability: Unavailable
footprint 0603_R
footprint 0805_R
footprint 1206_R
pins: 1, 2

## RES_11
designator R?, comment 1.6MΩ ±1%
MP: 3-1879460-6; Package: None; Price: None; Value: *; Availability: Unavailable
footprint 0603_R
footprint 0805_R
footprint 1206_R
pins: 1, 2

## RES_12
designator R?, comment 24.9kΩ ±1%
MP: 3-1879460-6; Package: None; Price: None; Value: *; Availability: Unavailable
footprint 0603_R
footprint 0805_R
footprint 1206_R
pins: 1, 2

## RES_13
designator R?, comment 221kΩ ±1%
MP: 3-1879460-6; Package: None; Price: None; Value: *; Availability: Unavailable
footprint 0603_R
footprint 0805_R
footprint 1206_R
pins: 1, 2

## RES_14
designator R?, comment 10Ω ±1%
MP: 3-1879460-6; Package: None; Price: None; Value: *; Availability: Unavailable
footprint 0603_R
footprint 0805_R
footprint 1206_R
pins: 1, 2

## RES_15
designator R?, comment 470Ω ±1%
MP: 3-1879460-6; Package: None; Price: None; Value: *; Availability: Unavailable
footprint 0603_R
footprint 0805_R
footprint 1206_R
pins: 1, 2

## RES_16
designator R?, comment 910Ω ±1%
MP: 3-1879460-6; Package: None; Price: None; Value: *; Availability: Unavailable
footprint 0603_R
footprint 0805_R
footprint 1206_R
pins: 1, 2

## RES_17
designator R?, comment 16.5kΩ ±1%
MP: 3-1879460-6; Package: None; Price: None; Value: *; Availability: Unavailable
footprint 0603_R
footprint 0805_R
footprint 1206_R
pins: 1, 2

## RES_18
designator R?, comment NC
MP: 3-1879460-6; Package: None; Price: None; Value: *; Availability: Unavailable
footprint 0603_R
footprint 0805_R
footprint 1206_R
pins: 1, 2

## Res_19
designator R?, comment 4.7K
footprint 0603-R (Resistor 0603 Medium Density)
footprint 0805-R (Resistor 0805 Medium Density)
footprint 1206-R (Resistor 1206 Medium Density)
footprint 1210-R (Resistor 1210 Medium Density)
footprint 2010-R (Resistor 2010 Medium Density)
footprint 0402-R
pins: 1, 2

## Res_20
designator R?, comment 1.66K
footprint 0603-R (Resistor 0603 Medium Density)
footprint 0805-R (Resistor 0805 Medium Density)
footprint 1206-R (Resistor 1206 Medium Density)
footprint 1210-R (Resistor 1210 Medium Density)
footprint 2010-R (Resistor 2010 Medium Density)
footprint 0402-R
pins: 1, 2

## Res_21
designator R?, comment 1K
footprint 0603-R (Resistor 0603 Medium Density)
footprint 0805-R (Resistor 0805 Medium Density)
footprint 1206-R (Resistor 1206 Medium Density)
footprint 1210-R (Resistor 1210 Medium Density)
footprint 2010-R (Resistor 2010 Medium Density)
footprint 0402-R
pins: 1, 2

## Res_22
designator R?, comment 100R
footprint 0603-R (Resistor 0603 Medium Density)
footprint 0805-R (Resistor 0805 Medium Density)
footprint 1206-R (Resistor 1206 Medium Density)
footprint 1210-R (Resistor 1210 Medium Density)
footprint 2010-R (Resistor 2010 Medium Density)
footprint 0402-R
pins: 1, 2

## Res_23
designator R?, comment 470K
footprint 0603-R (Resistor 0603 Medium Density)
footprint 0805-R (Resistor 0805 Medium Density)
footprint 1206-R (Resistor 1206 Medium Density)
footprint 1210-R (Resistor 1210 Medium Density)
footprint 2010-R (Resistor 2010 Medium Density)
footprint 0402-R
pins: 1, 2

## Res_24
designator R?, comment 20k
footprint 0603-R (Resistor 0603 Medium Density)
footprint 0805-R (Resistor 0805 Medium Density)
footprint 1206-R (Resistor 1206 Medium Density)
footprint 1210-R (Resistor 1210 Medium Density)
footprint 2010-R (Resistor 2010 Medium Density)
footprint 0402-R
pins: 1, 2

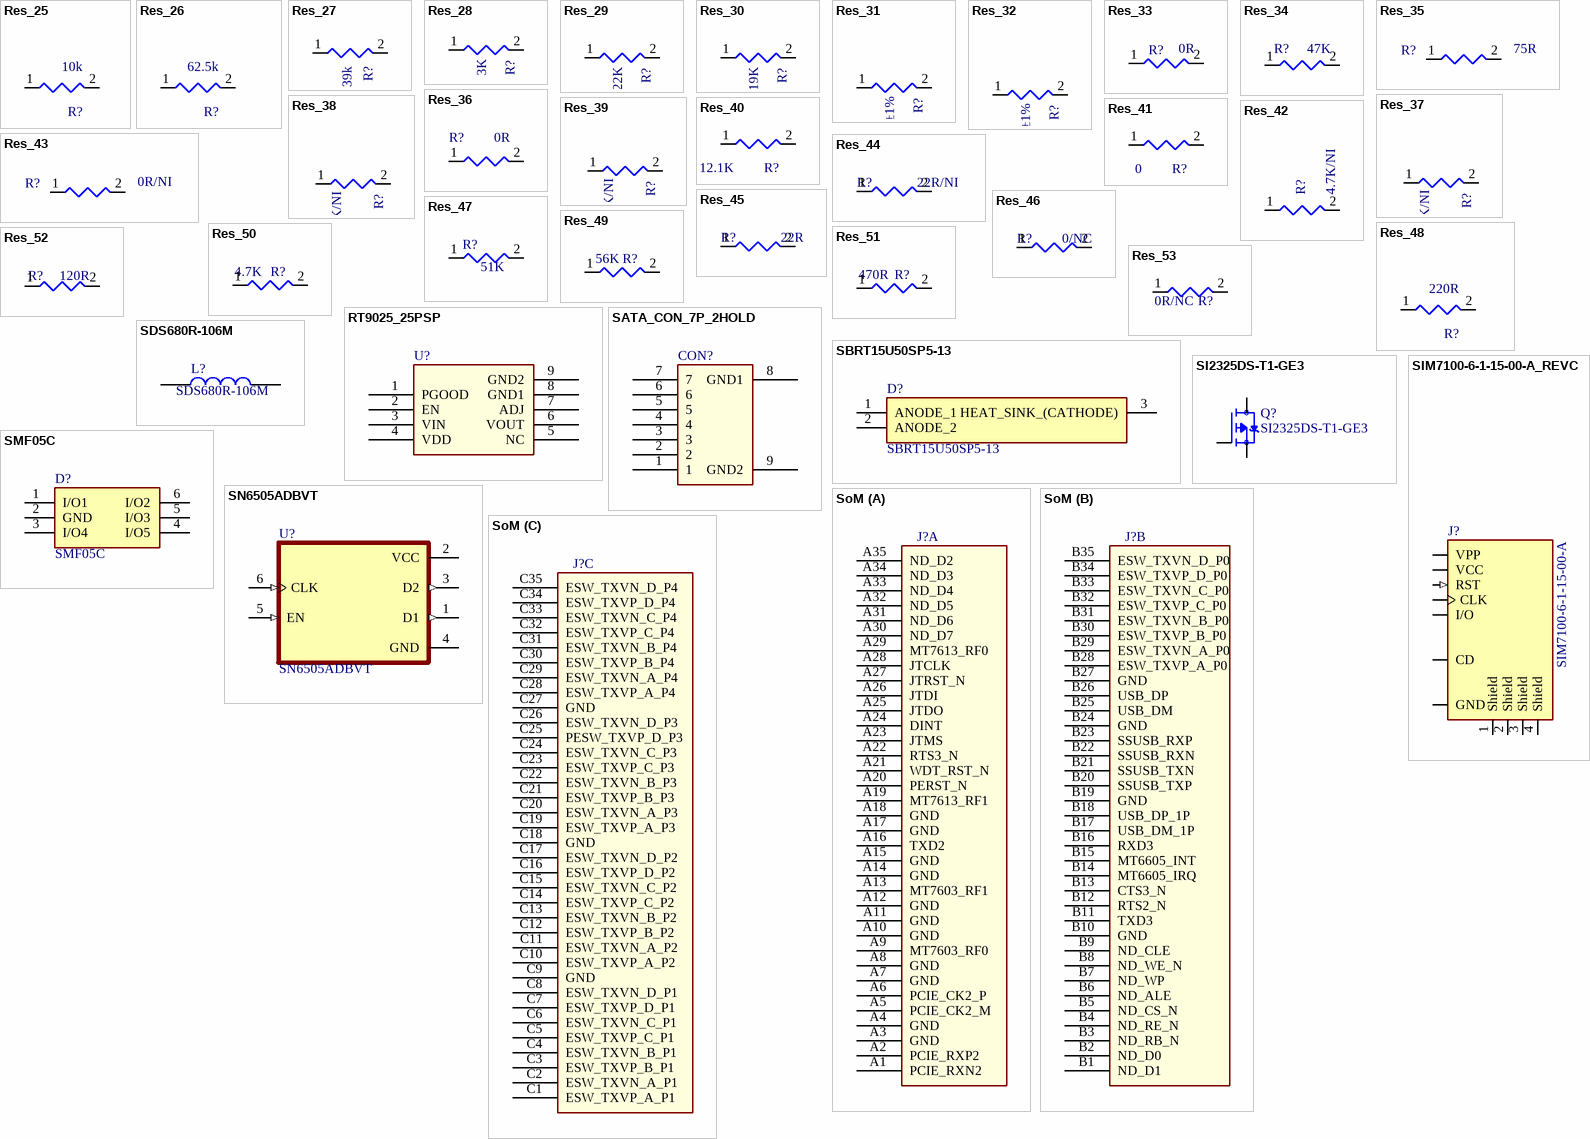
[diagram p3: symbols Res_25 to SoM]

## Res_25
designator R?, comment 10k
footprint 0603-R (Resistor 0603 Medium Density)
footprint 0805-R (Resistor 0805 Medium Density)
footprint 1206-R (Resistor 1206 Medium Density)
footprint 1210-R (Resistor 1210 Medium Density)
footprint 2010-R (Resistor 2010 Medium Density)
footprint 0402-R
pins: 1, 2

## Res_26
designator R?, comment 62.5k
footprint 0603-R (Resistor 0603 Medium Density)
footprint 0805-R (Resistor 0805 Medium Density)
footprint 1206-R (Resistor 1206 Medium Density)
footprint 1210-R (Resistor 1210 Medium Density)
footprint 2010-R (Resistor 2010 Medium Density)
footprint 0402-R
pins: 1, 2

## Res_27
designator R?, comment 39k
footprint 0603-R (Resistor 0603 Medium Density)
footprint 0805-R (Resistor 0805 Medium Density)
footprint 1206-R (Resistor 1206 Medium Density)
footprint 1210-R (Resistor 1210 Medium Density)
footprint 2010-R (Resistor 2010 Medium Density)
footprint 0402-R
pins: 1, 2

## Res_28
designator R?, comment 3K
footprint 0603-R (Resistor 0603 Medium Density)
footprint 0805-R (Resistor 0805 Medium Density)
footprint 1206-R (Resistor 1206 Medium Density)
footprint 1210-R (Resistor 1210 Medium Density)
footprint 2010-R (Resistor 2010 Medium Density)
footprint 0402-R
pins: 1, 2

## Res_29
designator R?, comment 22K
footprint 0603-R (Resistor 0603 Medium Density)
footprint 0805-R (Resistor 0805 Medium Density)
footprint 1206-R (Resistor 1206 Medium Density)
footprint 1210-R (Resistor 1210 Medium Density)
footprint 2010-R (Resistor 2010 Medium Density)
footprint 0402-R
pins: 1, 2

## Res_30
designator R?, comment 19K
footprint 0603-R (Resistor 0603 Medium Density)
footprint 0805-R (Resistor 0805 Medium Density)
footprint 1206-R (Resistor 1206 Medium Density)
footprint 1210-R (Resistor 1210 Medium Density)
footprint 2010-R (Resistor 2010 Medium Density)
footprint 0402-R
pins: 1, 2

## Res_31
designator R?, comment 47K ±1%
footprint 0603-R (Resistor 0603 Medium Density)
footprint 0805-R (Resistor 0805 Medium Density)
footprint 1206-R (Resistor 1206 Medium Density)
footprint 1210-R (Resistor 1210 Medium Density)
footprint 2010-R (Resistor 2010 Medium Density)
footprint 0402-R
pins: 1, 2

## Res_32
designator R?, comment 100K ±1%
footprint 0603-R (Resistor 0603 Medium Density)
footprint 0805-R (Resistor 0805 Medium Density)
footprint 1206-R (Resistor 1206 Medium Density)
footprint 1210-R (Resistor 1210 Medium Density)
footprint 2010-R (Resistor 2010 Medium Density)
footprint 0402-R
pins: 1, 2

## Res_33
designator R?, comment 0R
footprint 0603-R (Resistor 0603 Medium Density)
footprint 0805-R (Resistor 0805 Medium Density)
footprint 1206-R (Resistor 1206 Medium Density)
footprint 1210-R (Resistor 1210 Medium Density)
footprint 2010-R (Resistor 2010 Medium Density)
footprint 0402-R
pins: 1, 2

## Res_34
designator R?, comment 47K
footprint 0603-R (Resistor 0603 Medium Density)
footprint 0805-R (Resistor 0805 Medium Density)
footprint 1206-R (Resistor 1206 Medium Density)
footprint 1210-R (Resistor 1210 Medium Density)
footprint 2010-R (Resistor 2010 Medium Density)
footprint 0402-R
pins: 1, 2

## Res_35
designator R?, comment 75R
footprint 0603-R (Resistor 0603 Medium Density)
footprint 0805-R (Resistor 0805 Medium Density)
footprint 1206-R (Resistor 1206 Medium Density)
footprint 1210-R (Resistor 1210 Medium Density)
footprint 2010-R (Resistor 2010 Medium Density)
footprint 0402-R
pins: 1, 2

## Res_36
designator R?, comment 0R
footprint 0603-R (Resistor 0603 Medium Density)
footprint 0805-R (Resistor 0805 Medium Density)
footprint 1206-R (Resistor 1206 Medium Density)
footprint 1210-R (Resistor 1210 Medium Density)
footprint 2010-R (Resistor 2010 Medium Density)
footprint 0402-R
pins: 1, 2

## Res_37
designator R?, comment 113K/NI
footprint 0603-R (Resistor 0603 Medium Density)
footprint 0805-R (Resistor 0805 Medium Density)
footprint 1206-R (Resistor 1206 Medium Density)
footprint 1210-R (Resistor 1210 Medium Density)
footprint 2010-R (Resistor 2010 Medium Density)
footprint 0402-R
pins: 1, 2

## Res_38
designator R?, comment 200K/NI
footprint 0603-R (Resistor 0603 Medium Density)
footprint 0805-R (Resistor 0805 Medium Density)
footprint 1206-R (Resistor 1206 Medium Density)
footprint 1210-R (Resistor 1210 Medium Density)
footprint 2010-R (Resistor 2010 Medium Density)
footprint 0402-R
pins: 1, 2

## Res_39
designator R?, comment 1K/NI
footprint 0603-R (Resistor 0603 Medium Density)
footprint 0805-R (Resistor 0805 Medium Density)
footprint 1206-R (Resistor 1206 Medium Density)
footprint 1210-R (Resistor 1210 Medium Density)
footprint 2010-R (Resistor 2010 Medium Density)
footprint 0402-R
pins: 1, 2

## Res_40
designator R?, comment 12.1K
footprint 0603-R (Resistor 0603 Medium Density)
footprint 0805-R (Resistor 0805 Medium Density)
footprint 1206-R (Resistor 1206 Medium Density)
footprint 1210-R (Resistor 1210 Medium Density)
footprint 2010-R (Resistor 2010 Medium Density)
footprint 0402-R
pins: 1, 2

## Res_41
designator R?, comment 0
footprint 0603-R (Resistor 0603 Medium Density)
footprint 0805-R (Resistor 0805 Medium Density)
footprint 1206-R (Resistor 1206 Medium Density)
footprint 1210-R (Resistor 1210 Medium Density)
footprint 2010-R (Resistor 2010 Medium Density)
footprint 0402-R
pins: 1, 2

## Res_42
designator R?, comment 4.7K/NI
footprint 0603-R (Resistor 0603 Medium Density)
footprint 0805-R (Resistor 0805 Medium Density)
footprint 1206-R (Resistor 1206 Medium Density)
footprint 1210-R (Resistor 1210 Medium Density)
footprint 2010-R (Resistor 2010 Medium Density)
footprint 0402-R
pins: 1, 2

## Res_43
designator R?, comment 0R/NI
footprint 0603-R (Resistor 0603 Medium Density)
footprint 0805-R (Resistor 0805 Medium Density)
footprint 1206-R (Resistor 1206 Medium Density)
footprint 1210-R (Resistor 1210 Medium Density)
footprint 2010-R (Resistor 2010 Medium Density)
footprint 0402-R
pins: 1, 2

## Res_44
designator R?, comment 22R/NI
footprint 0603-R (Resistor 0603 Medium Density)
footprint 0805-R (Resistor 0805 Medium Density)
footprint 1206-R (Resistor 1206 Medium Density)
footprint 1210-R (Resistor 1210 Medium Density)
footprint 2010-R (Resistor 2010 Medium Density)
footprint 0402-R
pins: 1, 2

## Res_45
designator R?, comment 22R
footprint 0603-R (Resistor 0603 Medium Density)
footprint 0805-R (Resistor 0805 Medium Density)
footprint 1206-R (Resistor 1206 Medium Density)
footprint 1210-R (Resistor 1210 Medium Density)
footprint 2010-R (Resistor 2010 Medium Density)
footprint 0402-R
pins: 1, 2

## Res_46
designator R?, comment 0/NC
footprint 0603-R (Resistor 0603 Medium Density)
footprint 0805-R (Resistor 0805 Medium Density)
footprint 1206-R (Resistor 1206 Medium Density)
footprint 1210-R (Resistor 1210 Medium Density)
footprint 2010-R (Resistor 2010 Medium Density)
footprint 0402-R
pins: 1, 2

## Res_47
designator R?, comment 51K
footprint 0603-R (Resistor 0603 Medium Density)
footprint 0805-R (Resistor 0805 Medium Density)
footprint 1206-R (Resistor 1206 Medium Density)
footprint 1210-R (Resistor 1210 Medium Density)
footprint 2010-R (Resistor 2010 Medium Density)
footprint 0402-R
pins: 1, 2

## Res_48
designator R?, comment 220R
footprint 0603-R (Resistor 0603 Medium Density)
footprint 0805-R (Resistor 0805 Medium Density)
footprint 1206-R (Resistor 1206 Medium Density)
footprint 1210-R (Resistor 1210 Medium Density)
footprint 2010-R (Resistor 2010 Medium Density)
footprint 0402-R
pins: 1, 2

## Res_49
designator R?, comment 56K
footprint 0603-R (Resistor 0603 Medium Density)
footprint 0805-R (Resistor 0805 Medium Density)
footprint 1206-R (Resistor 1206 Medium Density)
footprint 1210-R (Resistor 1210 Medium Density)
footprint 2010-R (Resistor 2010 Medium Density)
footprint 0402-R
pins: 1, 2

## Res_50
designator R?, comment 4.7K
footprint 0603-R (Resistor 0603 Medium Density)
footprint 0805-R (Resistor 0805 Medium Density)
footprint 1206-R (Resistor 1206 Medium Density)
footprint 1210-R (Resistor 1210 Medium Density)
footprint 2010-R (Resistor 2010 Medium Density)
footprint 0402-R
pins: 1, 2

## Res_51
designator R?, comment 470R
footprint 0603-R (Resistor 0603 Medium Density)
footprint 0805-R (Resistor 0805 Medium Density)
footprint 1206-R (Resistor 1206 Medium Density)
footprint 1210-R (Resistor 1210 Medium Density)
footprint 2010-R (Resistor 2010 Medium Density)
footprint 0402-R
pins: 1, 2

## Res_52
designator R?, comment 120R
footprint 0603-R (Resistor 0603 Medium Density)
footprint 0805-R (Resistor 0805 Medium Density)
footprint 1206-R (Resistor 1206 Medium Density)
footprint 1210-R (Resistor 1210 Medium Density)
footprint 2010-R (Resistor 2010 Medium Density)
footprint 0402-R
pins: 1, 2

## Res_53
designator R?, comment 0R/NC
footprint 0603-R (Resistor 0603 Medium Density)
footprint 0805-R (Resistor 0805 Medium Density)
footprint 1206-R (Resistor 1206 Medium Density)
footprint 1210-R (Resistor 1210 Medium Density)
footprint 2010-R (Resistor 2010 Medium Density)
footprint 0402-R
pins: 1, 2

## RT9025_25PSP
designator U?, comment RT9025_25PSP/NI  (value not drawn)
footprint SOP-8
pins: 1 PGOOD, 2 EN, 3 VIN, 4 VDD, 5 NC, 6 VOUT, 7 ADJ, 8 GND1, 9 GND2

## SATA_CON_7P_2HOLD
designator CON?  (value not drawn)
footprint 0678008025
pins: 1, 2, 3, 4, 5, 6, 7, 8 GND1, 9 GND2

## SBRT15U50SP5-13
designator D?
Diode; Manufacturer_Name: Diodes Inc.; Datasheet Link: http://media.digikey.com/pdf/Data%20Sheets/Diodes%20PDFs/SBRT15U50SP5.pdf; Manufacturer_Part_Number: SBRT15U50SP5-13; Mouser Part Number: 621-SBRT15U50SP5-13; Mouser Price/Stock: https://www.mouser.co.uk/ProductDetail/Diodes-Incorporated/SBRT15U50SP5-13?qs=dZoB6MK9LKNtZyLX7B5L8A%3D%3D; Arrow Part Number: SBRT15U50SP5-13; Arrow Price/Stock: https://www.arrow.com/en/products/sbrt15u50sp5-13/diodes-incorporated?region=nac
footprint POWERDI5
pins: 1 ANODE_1, 2 ANODE_2, 3 HEAT_SINK_(CATHODE)

## SDS680R-106M
designator L?
Inductor 10mH; Manufacturer_Name: Bourns; Manufacturer_Part_Number: SRR6603-103ML; Datasheet Link: https://www.bourns.com/docs/Product-Datasheets/SRR6603.pdf; Height: 3mm; Mouser Part Number: 652-SRR6603-103ML; Mouser Price/Stock: https://www.mouser.co.uk/ProductDetail/Bourns/SRR6603-103ML?qs=Nb99Pa9xYq%252Bz9Mktch6%252BTg%3D%3D; Arrow Part Number: SRR6603-103ML; Arrow Price/Stock: https://www.arrow.com/en/products/srr6603-103ml/bourns
footprint SRR6603332ML
pins: 1, 2

## SI2325DS-T1-GE3
designator Q?
150V 0.69A 1.25W 1.2ohm at 10V; MF: Vishay Siliconix; SnapEDA_Link: https://www.snapeda.com/parts/SI2325DS-T1-GE3/Vishay+Siliconix/view-part/?ref=snap; Package: SOT-23-3 Vishay Siliconix; Value: *; MP: SI2325DS-T1-GE3; Check_prices: https://www.snapeda.com/parts/SI2325DS-T1-GE3/Vishay+Siliconix/view-part/?ref=eda
footprint SOT-23
pins: 1 G, 2 S, 3 D